# Altium schematic symbol library BioZ.SchLib: 30 symbols
Pins are listed as number, name and electrical type; pins without a type are passive.

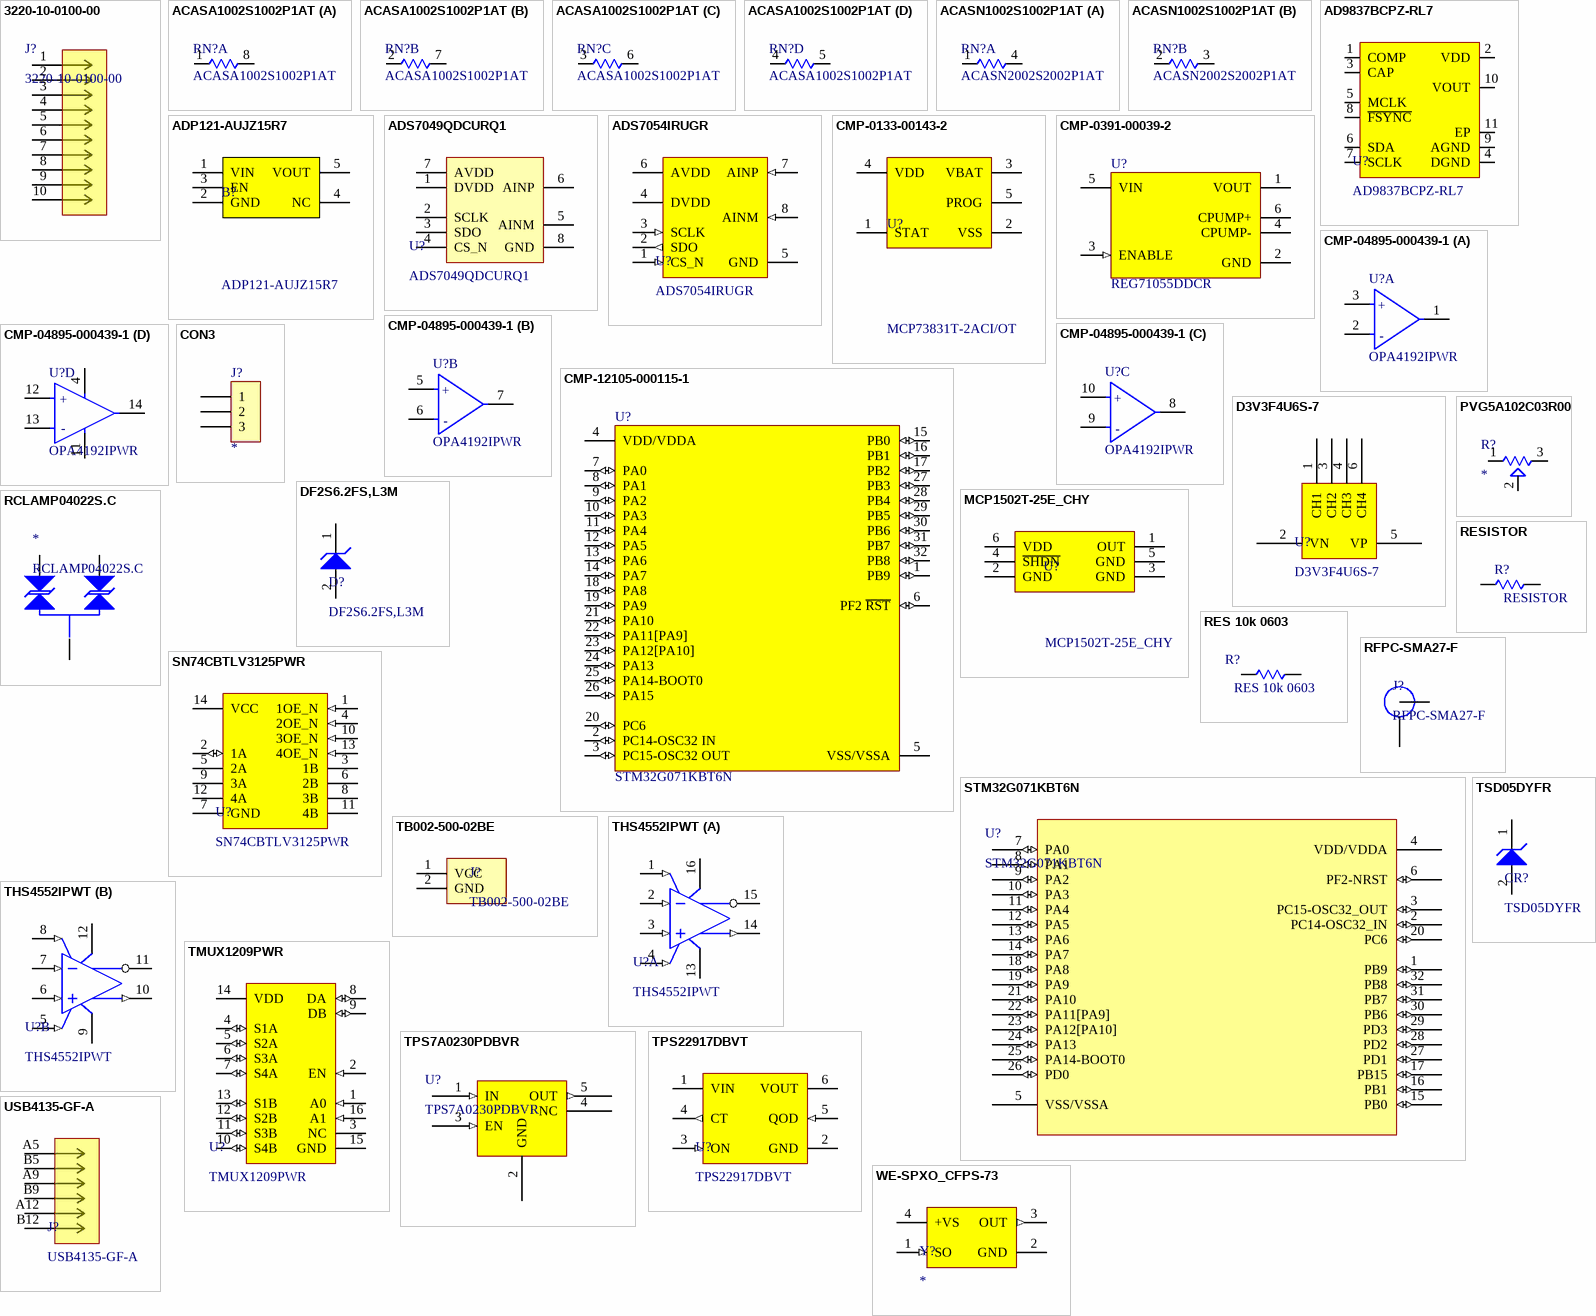
[diagram p0: symbols 3220-10-0100-00 to WE-SPXO_CFPS-73]

## 3220-10-0100-00
designator J?
Description; Manufacturer_Name: CNC Tech; Copyright: Copyright (C) 2025 Ultra Librarian. All rights reserved.; Manufacturer_Part_Number: 3220-10-0100-00; RefDes: RefDes; Type: Type
footprint CONN_3220-10-0100-00_CNC
pins: 1, 2, 3, 4, 5, 6, 7, 8, 9, 10

## ACASA1002S1002P1AT
designator RN?
4 resistor, resistor network in a 8 pin DIP package
footprint 1206 4-Resistor Network
part A pins: 1, 8
part B pins: 2, 7
part C pins: 3, 6
part D pins: 4, 5

## ACASN1002S1002P1AT
designator RN?, comment ACASN2002S2002P1AT
2 resistor, resistor network, 10k/10k 0.1% abs. and 0.05% rel., 0606, 25ppm
footprint 0606 2-RESISTOR NETWORK
part A pins: 1, 4
part B pins: 2, 3

## AD9837BCPZ-RL7
designator U?
Direct Digital Synthesis IC 10 b 16 MHz 28 b Tuning 10-LFCSP-WD (3x3)
footprint LFCSP-WD (3x3) - 10 Pin EPAD
pins: 1 COMP "0.091" Dia", 2 VDD "0.091" Dia", 3 CAP "0.091" Dia", 4 DGND "0.091" Dia", 5 MCLK "0.091" Dia", 6 SDA "0.091" Dia", 7 SCLK "0.091" Dia", 8 ~{FSYNC} "0.091" Dia", 9 AGND "0.091" Dia", 10 VOUT "0.091" Dia", 11 EP "0.091" Dia"

## ADP121-AUJZ15R7
designator B?
CMOS Linear Regulator; Manufacturer_Name: Analog Devices; Geometry.Height: 1mm; Manufacturer_Part_Number: ADP121-AUJZ15R7; Mouser Part Number: 584-ADP121-AUJZ15R7; Mouser Price/Stock: http://www.mouser.com/Search/ProductDetail.aspx?qs=BpaRKvA4VqELU1RnuOdOOA%3d%3d; Arrow Part Number: ADP121-AUJZ15R7; Arrow Price/Stock: https://www.arrow.com/en/products/adp121-aujz15r7/analog-devices; Datasheet Link: http://componentsearchengine.com/Datasheets/1/ADP121-AUJZ15R7.pdf
footprint SOT95P280X100-5N
pins: 1 VIN, 2 GND, 3 EN, 4 NC, 5 VOUT

## ADS7049QDCURQ1
designator U?
Ultra-Low-Power Ultra-Small-Size 12-Bit 2MSPS SAR ADC 8-VSSOP -40 to 125; Manufacturer_Name: Texas Instruments; TYPE: TYPE; RefDes: RefDes; Copyright: Copyright (C) 2026 Ultra Librarian. All rights reserved.; Manufacturer_Part_Number: ADS7049QDCURQ1
footprint VSSOP-8
pins: 1 DVDD (power), 2 SCLK, 3 SDO, 4 CS_N, 5 AINM, 6 AINP, 7 AVDD (power), 8 GND (power)

## ADS7054IRUGR
designator U?
14-Bit, 1MSPS, Differential Input, Small-Size Low-Power SAR ADC 8-X2QFN -40 to 125; Manufacturer_Name: Texas Instruments; TYPE: TYPE; RefDes: RefDes; Copyright: Copyright (C) 2026 Ultra Librarian. All rights reserved.; Manufacturer_Part_Number: ADS7054IRUGR
footprint 8-X2QFN (1.5x1.5)
pins: 1 CS_N (in), 2 SDO (out), 3 SCLK (in), 4 DVDD (power), 5 GND (power), 6 AVDD (power), 7 AINP (in), 8 AINM (in)

## CMP-0133-00143-2
designator U?, comment MCP73831T-2ACI/OT
IC CONTROLLR LI-ION 4.2V SOT23-5; Max Power Dissipation: 1.54W; Output Current: 500mA; Max Output Voltage: 4.5V; Number of Outputs: 1; Min Output Voltage: 4.168V; Min Supply Voltage: 3.75V; Max Input Voltage: 6V; Voltage Rating: 4.534V; Drain to Source Resistance: 350mR; Max Operating Temperature: 85°C; Length: 0.122inch; Number of Pins: 5; REACH SVHC: No SVHC; Radiation Hardening: No; Min Operating Temperature: -40°C; Weight: 0.00709oz; Contact Plating: Tin; Termination: SMD/SMT; Case/Package: SOT-23; Mount: Surface Mount; Width: 0.071inch; Packaging: Tape and Reel; Number of Cells: 1; Max Charge Current: 500mA; Height: 0.051inch; Number of Channels: 1; Output Voltage: 4.2V; Max Supply Voltage: 6V; Lead Free: Lead Free
footprint SOT23_DBV_TEX-M
pins: 1 STAT, 2 VSS (power), 3 VBAT (power), 4 VDD (power), 5 PROG

## CMP-0391-00039-2
designator U?, comment REG71055DDCR
5.5 V, Buck / Boost Charge Pump, 60 mA, 3 to 5.5 V Input with 2-Cell Alkaline / Nixx Input, -40 to 85 degC, 6-pin SOT23 (DDC6), Green (RoHS & no Sb/Br); Manufacturer: Texas Instruments; Vin(Max)(V): 5.5; Iq(Typ)(mA): 0.065; Efficiency(Typ)(%): 90; Vin(Min)(V): 3; Vout(Min)(V): 5.2; Vout(Max)(V): 5.8; Switching Frequency(Max)(kHz): 1000; Iout(Max)(A): 0.06; 2-Cell Alkaline/Nixx Input: TRUE; Preset Vout(V): 5.5; PartNumber: REG71055DDCR; ComponentLink2URL: http://www.ti.com/general/docs/lit/getliterature.tsp?genericPartNumber=REG71055&fileType=pdf; Code_JEDEC: MO-193; ComponentLink3Description: Package Specification; Eco-Plan: Green (RoHS & no Sb/Br); PackageVersion: 4204403-3/E; Topology: Buck/Boost; ComponentLink1URL: http://www.ti.com/; PackageReference: DDC0006A; PackageDescription: 6-Pin Plastic Small Outline, Body 2.9 x 1.6 mm, 0.95 mm Pitch; ComponentLink3URL: http://www.ti.com/litv/pdf/mpds124d; Mounting Technology: Surface Mount; ComponentLink2Description: Datasheet; DatasheetVersion: SBAS221G; ComponentLink1Description: Manufacturer URL
footprint DDC0006A_M (SOT23, 6-Leads, Body 3.05x1.75mm, Pitch 0.95mm, IPC Low Density)
pins: 1 VOUT (power), 2 GND (power), 3 ENABLE (in), 4 CPUMP-, 5 VIN (power), 6 CPUMP+

## CMP-04895-000439-1
designator U?, comment OPA4192IPWR
IC OPAMP GP 4 CIRCUIT 14TSSOP; Gain Bandwidth Product: 10MHz; Number of Channels: 4; Case/Package: TSSOP; Lead Free: Lead Free; Max Operating Temperature: 125°C; RoHS Compliant: Yes; Min Operating Temperature: -40°C
footprint FP-PW0014A-IPC_C
part A pins: 1 OUT A, 2 -IN A (hiz), 3 +IN A (hiz)
part B pins: 5 +IN B (hiz), 6 -IN B (hiz), 7 OUT B
part C pins: 8 OUT C, 9 -IN C (hiz), 10 +IN C (hiz)
part D pins: 4 V+ (power), 11 V- (power), 12 +IN D (hiz), 13 -IN D (hiz), 14 OUT D
part A text: +; -
part B text: +; -
part C text: +; -
part D text: +; -

## CMP-12105-000115-1
designator U?, comment STM32G071KBT6N
IC MCU 32BIT 128KB FLASH 32LQFP; Core Architecture: ARM; Frequency: 64MHz; Number of I/Os: 30; Interface: I2C; Oscillator Type: Internal; Peripherals: Brown-out Detect/Reset; Number of Pins: 32; Max Operating Temperature: 85°C; RoHS Compliant: Yes; Packaging: Cut Tape; Case/Package: LQFP; Memory Type: FLASH; Memory Size: 128KB; Min Operating Temperature: -40°C
footprint FP-LQFP32-5V-IPC_C
footprint FP-LQFP32-5V-IPC_B
footprint FP-LQFP32-5V-IPC_A
footprint FP-LQFP32-5V-MFG
pins: 1 PB9 (io), 2 PC14-OSC32 IN (io), 3 PC15-OSC32 OUT (io), 4 VDD/VDDA (power), 5 VSS/VSSA (power), 6 PF2 ~{RST} (io), 7 PA0 (io), 8 PA1 (io), 9 PA2 (io), 10 PA3 (io), 11 PA4 (io), 12 PA5 (io), 13 PA6 (io), 14 PA7 (io), 15 PB0 (io), 16 PB1 (io), 17 PB2 (io), 18 PA8 (io), 19 PA9 (io), 20 PC6 (io), 21 PA10 (io), 22 PA11[PA9] (io), 23 PA12[PA10] (io), 24 PA13 (io), 25 PA14-BOOT0 (io), 26 PA15 (io), 27 PB3 (io), 28 PB4 (io), 29 PB5 (io), 30 PB6 (io), 31 PB7 (io), 32 PB8 (io)

## CON3
designator J?
Connector
footprint SIP3
pins: 1, 2, 3

## D3V3F4U6S-7
designator U?
Description; Manufacturer_Name: Diodes Inc; Copyright: Copyright (C) 2025 Ultra Librarian. All rights reserved.; Manufacturer_Part_Number: D3V3F4U6S-7; RefDes: RefDes; Type: Type
footprint SOT-363_DIO
pins: 1 CH1, 2 VN (power), 3 CH2, 4 CH3, 5 VP (power), 6 CH4

## DF2S6.2FS,L3M
designator D?
Unidirectional TVS Diode (ESD Protection Diode), 5.0 V, SOD-923; Manufacturer_Name: Toshiba Electronic Devices & Storage Corp.; Copyright: Copyright (C) 2026 Ultra Librarian. All rights reserved.; Manufacturer_Part_Number: DF2S6.2FS,L3M; RefDes: RefDes; Type: Type
footprint SOD-923_TOS
pins: 1 K, 2 A

## MCP1502T-25E_CHY
designator U?
Series Voltage Reference IC Fixed 2.5V V +/-0.1% 20 mA SOT-23-6; Manufacturer_Name: Microchip; Manufacturer_Part_Number: MCP1502T-25E/CHY; Geometry.Height: 1.45mm; Mouser Part Number: 579-MCP1502T-25E/CHY; Mouser Price/Stock: https://www.mouser.co.uk/ProductDetail/Microchip-Technology/MCP1502T-25E-CHY?qs=W%2FMpXkg%252BdQ4EOhKykk%2F7dw%3D%3D; Datasheet Link: *
footprint SOT95P280X145-6N
pins: 1 OUT, 2 GND, 3 GND, 4 ~{SHDN}, 5 GND, 6 VDD

## PVG5A102C03R00
designator R?
TRIMMER-SMD 4MM SQ MT CERMET Square / 12 turn / Sealed | Bourns PVG5A102C03R00; SnapEDA_Link: https://www.snapeda.com/parts/PVG5A102C03R00/Bourns/view-part/?ref=snap; Package: SMD-3 Bourns; Value: *; MF: Bourns; MP: PVG5A102C03R00; Check_prices: https://www.snapeda.com/parts/PVG5A102C03R00/Bourns/view-part/?ref=eda
footprint TRIM_PVG5A102C03R00
pins: 1, 2, 3

## RCLAMP04022S.C
designator *
footprint SOT-23 3L
pins: 1, 2, 3

## RES 10k 0603
designator R?
Resistor
simulation model Resistor
pins: 1, 2

## RESISTOR
designator R?
simulation model Resistor
pins: 1, 2

## RFPC-SMA27-F
designator J?
MF: {'manufacturer': u'GCT (Gradconn)'}; Package: None; Price: None; Value: *; MP: RFPC-SMA27-F; Availability: Unavailable
footprint GRADCONN_RFPC-SMA27-F
pins: SHLD (power), SIG

## SN74CBTLV3125PWR
designator U?
3.3-V, 1:1 (SPST), 4-channel FET bus switch with powered-off protection 14-TSSOP -40 to 85; Manufacturer_Name: Texas Instruments; TYPE: TYPE; RefDes: RefDes; Copyright: Copyright (C) 2026 Ultra Librarian. All rights reserved.; Manufacturer_Part_Number: SN74CBTLV3125PWR; Datasheet: https://www.ti.com/lit/gpn/sn74cbtlv3125
footprint PW0014A-IPC_A
pins: 1 1OE_N (in), 2 1A (io), 3 1B, 4 2OE_N (in), 5 2A, 6 2B, 7 GND (power), 8 3B, 9 3A, 10 3OE_N (in), 11 4B, 12 4A, 13 4OE_N (in), 14 VCC (power)

## STM32G071KBT6N
designator U?
Mainstream Arm Cortex-M0+ MCU with 128 Kbytes of Flash memory, 36 Kbytes RAM, 64 MHz CPU, 4x USART, timers, ADC, DAC, comm. I/F, 1.7-3.6V; Manufacturer_Name: STMicroelectronics; Copyright: Copyright (C) 2026 Ultra Librarian. All rights reserved.; Manufacturer_Part_Number: STM32G071KBT6N; RefDes: RefDes; Type: Type
footprint LQFP-32
pins: 1 PB9 (io), 2 PC14-OSC32_IN (io), 3 PC15-OSC32_OUT (io), 4 VDD/VDDA (power), 5 VSS/VSSA (power), 6 PF2-NRST (io), 7 PA0 (io), 8 PA1 (io), 9 PA2 (io), 10 PA3 (io), 11 PA4 (io), 12 PA5 (io), 13 PA6 (io), 14 PA7 (io), 15 PB0 (io), 16 PB1 (io), 17 PB15 (io), 18 PA8 (io), 19 PA9 (io), 20 PC6 (io), 21 PA10 (io), 22 PA11[PA9] (io), 23 PA12[PA10] (io), 24 PA13 (io), 25 PA14-BOOT0 (io), 26 PD0 (io), 27 PD1 (io), 28 PD2 (io), 29 PD3 (io), 30 PB6 (io), 31 PB7 (io), 32 PB8 (io)

## TB002-500-02BE
designator J?
2~24 Poles, Screw Type, Horizontal, 5.0 Pitch, 22~12 (AWG), Terminal Block Connector; MF: Same Sky; SnapEDA_Link: https://www.snapeda.com/parts/TB002-500-02BE/Same+Sky/view-part/?ref=snap; Package: None; Value: *; MP: TB002-500-02BE; Check_prices: https://www.snapeda.com/parts/TB002-500-02BE/Same+Sky/view-part/?ref=eda
footprint CUI_TB002-500-02BE
pins: 1 VCC, 2 GND

## THS4552IPWT
designator U?
Dual Channel, Low-Noise, Precision, 150-MHz, Fully Differential Amplifier 16-TSSOP -40 to 125; Manufacturer_Name: Texas Instruments; TYPE: TYPE; RefDes: RefDes; Copyright: Copyright (C) 2025 Ultra Librarian. All rights reserved.; Manufacturer_Part_Number: THS4552IPWT
footprint PW0016A_N
part A pins: 1 PD1_N (in), 2 VIN1+ (in), 3 VIN1- (in), 4 VOCM1 (in), 13 VS1+ (power), 14 VOUT1+ (out), 15 VOUT1- "Inverted amplifier output", 16 VS- (power)
part B pins: 5 PD2_N (in), 6 VIN2+ (in), 7 VIN2- (in), 8 VOCM2 (in), 9 VS2+ (power), 10 VOUT2+ (out), 11 VOUT2- "Inverted amplifier output", 12 VS- (power)

## TMUX1209PWR
designator U?
5-V, 4:1, 2-channel general-purpose multiplexer with 1.8-V input logic control 16-TSSOP -40 to 125; Manufacturer_Name: Texas Instruments; TYPE: TYPE; RefDes: RefDes; Copyright: Copyright (C) 2025 Ultra Librarian. All rights reserved.; Manufacturer_Part_Number: TMUX1209PWR
footprint PW0016A_N
pins: 1 A0 (in), 2 EN (in), 3 NC, 4 S1A (io), 5 S2A (io), 6 S3A (io), 7 S4A (io), 8 DA (io), 9 DB (io), 10 S4B (io), 11 S3B (io), 12 S2B (io), 13 S1B (io), 14 VDD (power), 15 GND (power), 16 A1 (in)

## TPS7A0230PDBVR
designator U?
200mA, nanopower-IQ (25 nA), low-dropout (LDO) voltage regulator with enable 5-SOT-23 -40 to 125; Manufacturer_Name: Texas Instruments; Copyright: Copyright (C) 2026 Ultra Librarian. All rights reserved.; Manufacturer_Part_Number: TPS7A0230PDBVR; RefDes: RefDes; Type: Type
footprint SOT23_DBV_TEX-M
pins: 1 IN (in), 2 GND (power), 3 EN (in), 4 NC, 5 OUT (out)

## TPS22917DBVT
designator U?
5.5-V, 2-A, 80-mÎ© , 10-nA leakage load switch adj. rise time and adj output discharge 6-SOT-23 -40 to 125; Manufacturer_Name: Texas Instruments; TYPE: TYPE; RefDes: RefDes; Copyright: Copyright (C) 2026 Ultra Librarian. All rights reserved.; Manufacturer_Part_Number: TPS22917DBVT
footprint DBV0006_N
pins: 1 VIN (power), 2 GND (power), 3 ON (in), 4 CT (out), 5 QOD (in), 6 VOUT (power)

## TSD05DYFR
designator CR?
5-V 60-A Unidirectional surge protection device 2-SOT -40 to 125; Manufacturer_Name: Texas Instruments; Copyright: Copyright (C) 2026 Ultra Librarian. All rights reserved.; Manufacturer_Part_Number: TSD05DYFR; RefDes: RefDes; Type: Type
footprint TVS_SOD2_DYF_TEX-L
pins: 1 K, 2 A

## USB4135-GF-A
designator J?
Description; Manufacturer_Name: Global Connector Technology; Copyright: Copyright (C) 2026 Ultra Librarian. All rights reserved.; Manufacturer_Part_Number: USB4135-GF-A; RefDes: RefDes; Type: Type
footprint CONN_USB4135-GF-A_GCT (Footprint not found)
pins: A5 CC1, A9 VBUS, A12 GND (power), B5 CC2, B9 VBUS, B12 GND (power)

## WE-SPXO_CFPS-73
designator Y?
MF: {'manufacturer': u'W\xfcrth Elektronik'}; MP: 831018043; Package: None; Price: None; Value: *; Availability: Unavailable
footprint WE-SPXO_CFPS-73
pins: 1 SO (in), 2 GND (power), 3 OUT (out), 4 +VS (power)